# EAGLE library part BQ24165 (library PP_PowerIC)
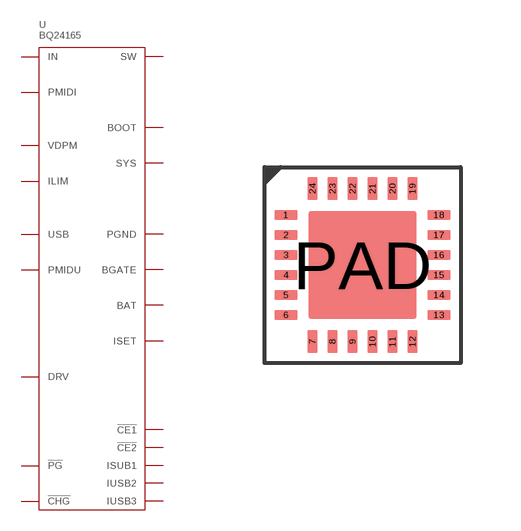
[diagram p14: symbol with the pads of BQ24165_QFN-24; footprint BQ24165_QFN-24]

Designator prefix U

## BQ24165RGET (MFG: Texas Instruments; MPN: BQ24165RGET; POPULATE: 1)  [BQ24165_QFN-24]
1  VDPM
2  IUSB3
3  IUSB2
4  ISUB1
5  ISET
6  DRV
7  !PG
8  !CHG
9  !CE2
10  BGATE
11  BAT
12  BAT
13  SYS
14  SYS
15  ILIM
16  PGND
17  PGND
18  SW
19  BOOT
20  PMIDI
21  IN
22  USB
23  PMIDU
24  !CE1
PAD  PGND

## Footprint BQ24165_QFN-24 (pad centres in mm)
smd 0.58 x 0.24: 1 -1.913,1.25; 2 -1.913,0.75; 3 -1.913,0.25; 4 -1.913,-0.25; 5 -1.913,-0.75; 6 -1.913,-1.25; 13 1.913,-1.25; 14 1.913,-0.75; 15 1.913,-0.25; 16 1.913,0.25; 17 1.913,0.75; 18 1.913,1.25
smd 0.24 x 0.58: 7 -1.25,-1.913; 8 -0.75,-1.913; 9 -0.25,-1.913; 10 0.25,-1.913; 11 0.75,-1.913; 12 1.25,-1.913; 19 1.25,1.913; 20 0.75,1.913; 21 0.25,1.913; 22 -0.25,1.913; 23 -0.75,1.913; 24 -1.25,1.913
smd 2.7 x 2.7: PAD 0,0